# Altium schematic symbol library Lamp Neon.Schlib: 1 symbol
Pins are listed as number, name and electrical type; pins without a type are passive.

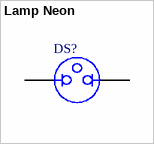
[diagram p0: symbol Lamp Neon]

## Lamp Neon
designator DS?
Neon Lamp
pins: 1, 2